# Altium footprint library S25-022.PcbLib: 1 footprints
Each footprint in its own frame and in the unit in brackets; x right, y up, seen from the top. Pads: shape width x height; smd on the part's side, far side on the other; paste and mask are expansions set on the pad; w line width, h text height; cw(c..) or ccw(c..) is an arc to the next point about the centre after c.
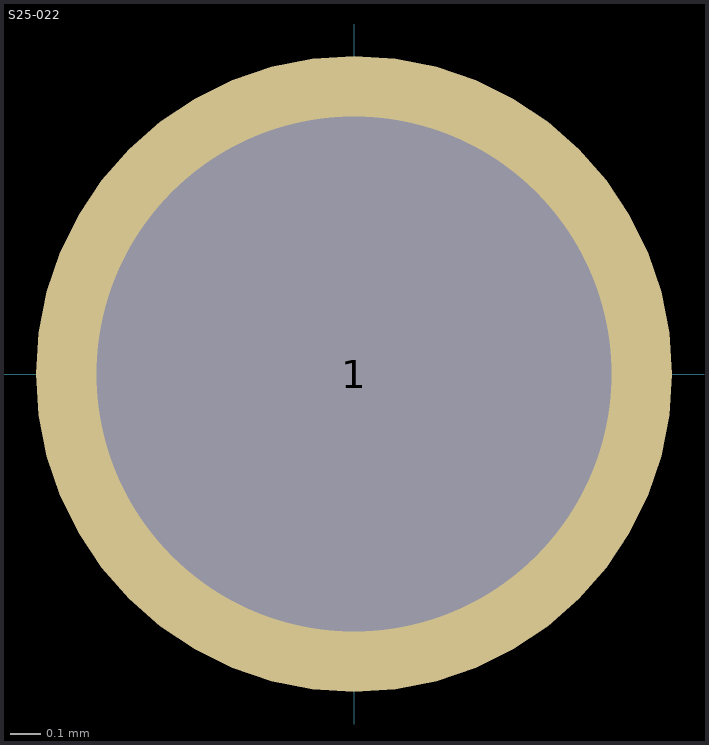
[diagram p0: the footprint, top view; thin cyan lines are the x and y axes]

## S25-022 [mm]
pads (1):
  round 2.1 hole 1.7: 1(0,0)
3D body "s25-022.stp": height 5.5, standoff -18.2, extent -0.915,-0.915 0.915,0.915
3D body "p25-0123.stp": height 11.7, standoff -13, extent -0.68,-0.68 0.68,0.68